# Altium footprint library Seeed-OPL-Resistor.PCBLIB: 55 footprints (part 1 of 4)
Each footprint in its own frame and in the unit in brackets; x right, y up, seen from the top. Pads: shape width x height; smd on the part's side, far side on the other; paste and mask are expansions set on the pad; w line width, h text height; cw(c..) or ccw(c..) is an arc to the next point about the centre after c.
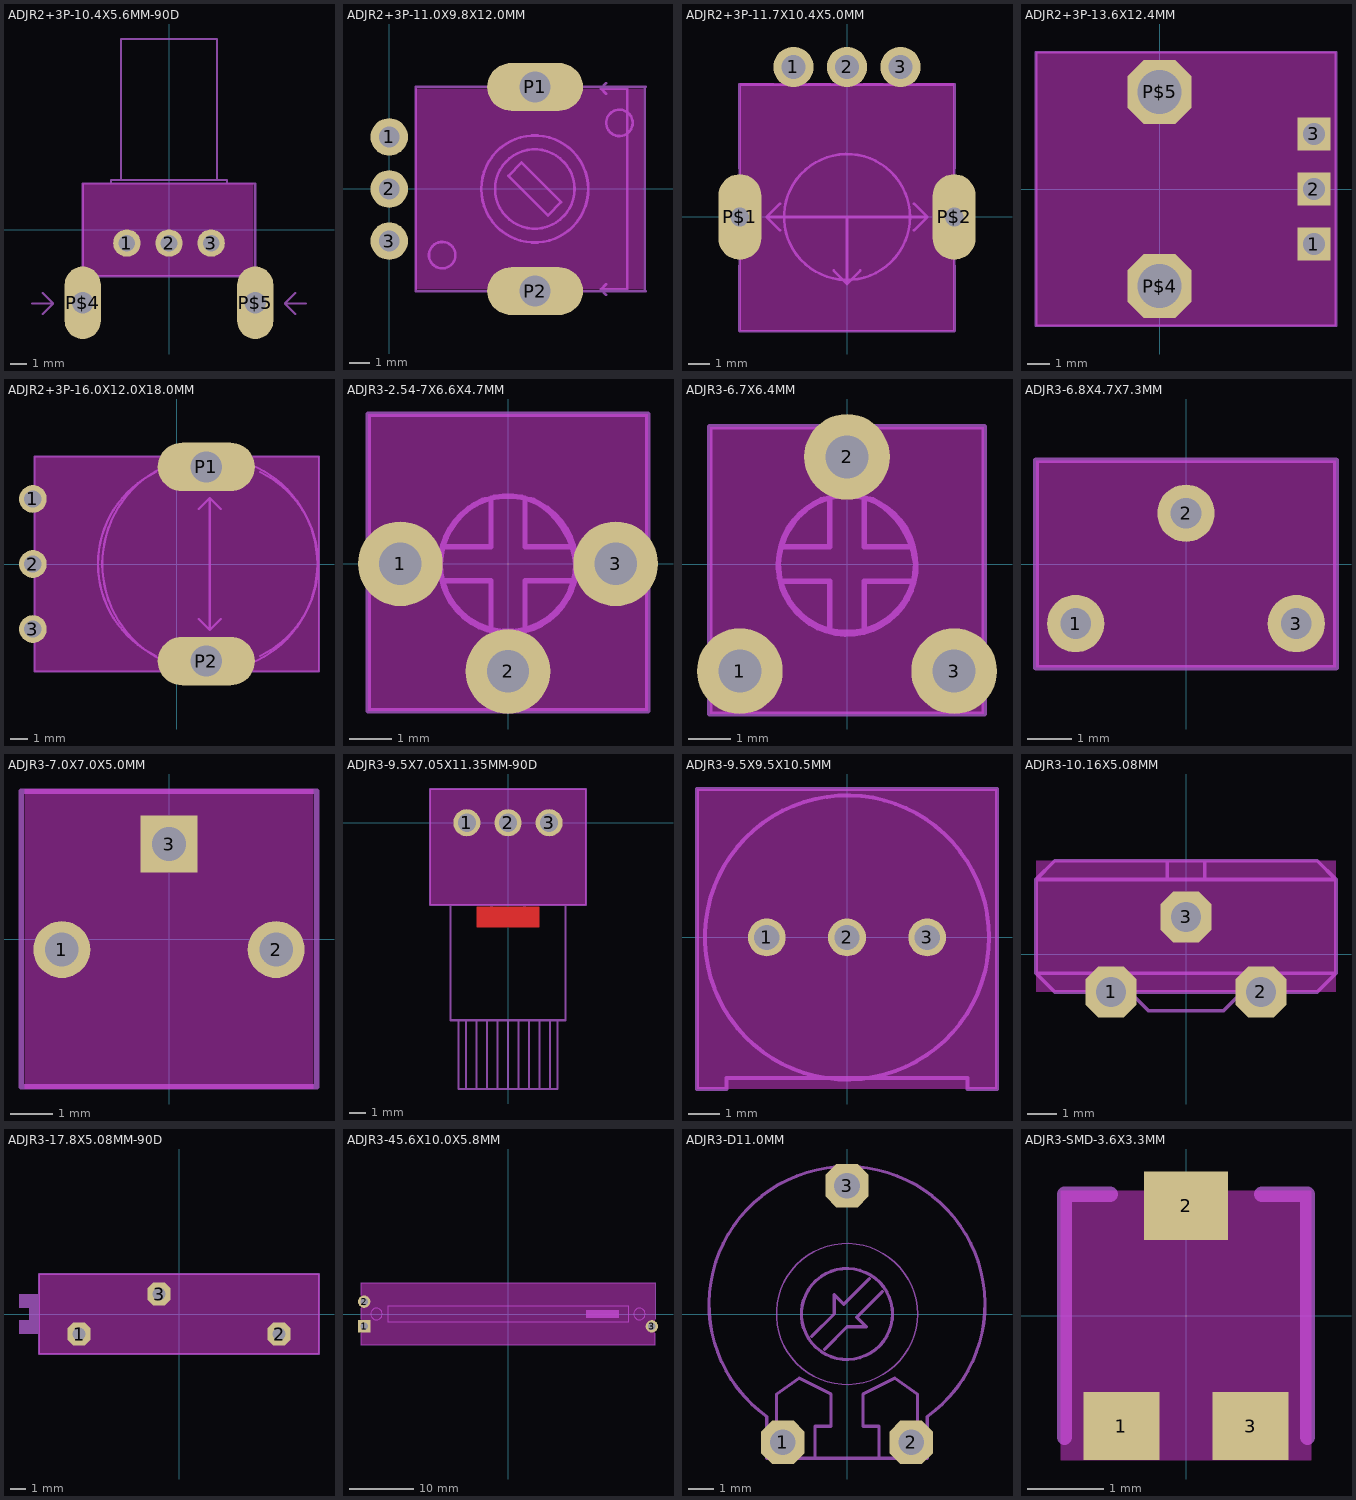
[diagram p0: the footprints below, top view; thin cyan lines are the x and y axes]

## ADJR2+3P-10.4X5.6MM-90D [mm]
pads (5):
  round 1.65 hole 1: 1(-2.54,-0.8) 2(0,-0.8) 3(2.54,-0.8)
  oval 2.184x4.369 hole 1.3: P$4(-5.2,-4.4) P$5(5.2,-4.4)
Keep-Out Layer:
  rectangle: -5.207,-2.794 5.08,2.794
Mechanical 2:
  lines w0.127: -5.2,-2 -5.2,2.8 -3.5,2.8 ; -3.9,-2.8 3.9,-2.8 ; 5.2,-1.9 5.2,2.8 3.5,2.8 ; -3.5,2.8 3.5,2.8 ; -3.5,2.8 -3.5,3 -2.9,3 ; -2.9,3 2.9,3 ; -2.9,3 -2.9,11.5 2.9,11.5 2.9,3 ; 2.9,3 3.5,3 3.5,2.8
Mechanical 13:
  lines w0.127: -8.255,-4.445 -6.985,-4.445 ; -7.62,-5.08 -6.985,-4.445 ; -7.62,-3.81 -6.985,-4.445 ; 7.62,-5.08 6.985,-4.445 ; 7.62,-3.81 6.985,-4.445 ; 8.255,-4.445 6.985,-4.445
  lines w1.3: -5.2,-5.7 -5.2,-3.1 ; 5.2,-5.7 5.2,-3.1
Mechanical 18:
  lines w0.127: -5.2,2.8 -5.2,-2.8 5.2,-2.8 5.2,2.8

## ADJR2+3P-11.0X9.8X12.0MM [mm]
pads (5):
  round 1.8 hole 1: 1(0,2.5) 2(0,0) 3(0,-2.5)
  oval 4.6x2.3 hole 1.5: P1(7,4.9) P2(7,-4.9)
Keep-Out Layer:
  rectangle: 1.27,-4.826 12.192,4.826
Mechanical 2:
  circle w0.127: c2.54,-3.175 r0.635
  circle w0.127: c11.049,3.175 r0.635
  circle w0.127: c6.985,0 r2.568
  circle w0.127: c6.985,0 r1.905
  lines w0.127: 1.27,-4.9 1.27,4.9 ; 1.3,-4.9 4.5,-4.9 ; 1.3,4.9 4.4,4.9 ; 9.5,-4.9 12.3,-4.9 ; 9.5,4.9 12.3,4.9 ; 12.27,-4.9 12.27,4.9 ; 5.715,0.635 6.35,1.27 8.255,-0.635 7.62,-1.27 5.715,0.635
Mechanical 13:
  lines w0.127: 10.414,-5.08 10.16,-4.826 ; 10.414,-4.572 10.16,-4.826 ; 10.414,4.572 10.16,4.826 ; 10.414,5.08 10.16,4.826 ; 10.16,-4.826 11.43,-4.826 11.43,4.826 10.16,4.826
  lines w1.5: 5.9,-4.9 8.1,-4.9 ; 5.9,4.9 8.1,4.9
Mechanical 18:
  lines w0.127: 1.27,-4.9 12.27,-4.9 ; 1.27,4.9 12.27,4.9

## ADJR2+3P-11.7X10.4X5.0MM [mil]
pads (5):
  round 75 hole 45: 1(-100,280) 2(0,280) 3(100,280)
  oval 80x160 hole 35: P$1(-200,0) P$2(200,0)
Keep-Out Layer:
  rectangle: -200,-213 200,250
Mechanical 2:
  circle w5: c0,0 r117.5
  lines w5: -200.79,-212.6 -200.79,-90.55 ; -200.79,90.55 -200.79,248.03 -137.8,248.03 ; -200,-213 200,-213 ; -70.87,248.03 -31.5,248.03 ; 31.5,248.03 66.93,248.03 ; 129.92,248.03 200.79,248.03 200.79,90.55 ; 200.79,-212.6 200.79,-90.55
Mechanical 13:
  lines w5: -125,-25 -150,0 ; -125,25 -150,0 ; -25,-100 0,-125 ; 25,-100 0,-125 ; 125,-25 150,0 ; 125,25 150,0 ; -150,0 0,0 ; 0,-125 0,0 ; 0,0 150,0
  lines w35: -200,-55 -200,55 ; 200,-55 200,55
Mechanical 18:
  lines w5: -200,-213 -200,247 200,247 200,-213

## ADJR2+3P-13.6X12.4MM [mm]
pads (5):
  rect 1.5x1.5 hole 1: 1(7,-2.5) 2(7,0) 3(7,2.5)
  oct 2.905x2.905 hole 2: P$4(0,-4.4) P$5(0,4.4)
Keep-Out Layer:
  rectangle: -5.6,-6.2 8,6.2
Mechanical 2:
  lines w0.127: -5.6,-6.2 8,-6.2 8,6.2 -5.6,6.2 -5.6,-6.2

## ADJR2+3P-16.0X12.0X18.0MM [mm]
pads (5):
  round 1.6 hole 1: 1(-8.3,3.75) 2(-8.3,0) 3(-8.3,-3.75)
  oval 5.6x2.8 hole 1.8: P1(1.7,5.6) P2(1.7,-5.6)
Keep-Out Layer:
  rectangle: -8.2,-6.2 8.2,6.2
Mechanical 2:
  circle w0.025: c-8.3,3.75 r0.5
  circle w0.025: c-8.3,0 r0.5
  circle w0.025: c-8.3,-3.75 r0.5
  lines w0.127: -8.2,-4.8 -8.2,-6.2 -1.2,-6.2 ; -8.2,-2.8 -8.2,-1 ; -8.2,1 -8.2,2.7 ; -8.2,4.8 -8.2,6.2 -1.2,6.2 ; -1.2,-5.3 cw(c1.325,0) -1.2,5.3 ; 4.6,-6.2 8.2,-6.2 8.2,6.2 4.6,6.2 ; 4.8,-5.3 ccw(c2.275,0) 4.8,5.3
Mechanical 13:
  lines w0.127: 1.27,-3.175 1.905,-3.81 ; 1.27,3.175 1.905,3.81 ; 2.54,-3.175 1.905,-3.81 ; 2.54,3.175 1.905,3.81 ; 1.905,-3.81 1.905,3.81
  lines w1.8: 0.4,-5.6 3,-5.6 ; 0.4,5.6 3,5.6
Mechanical 18:
  circle w0.127: c1.905,0 r6.2
  lines w0.127: -8.2,-6.2 -8.2,6.2 8.2,6.2 8.2,-6.2 -8.2,-6.2

## ADJR3-2.54-7X6.6X4.7MM [mm]
pads (3):
  round 2 hole 1: 1(-2.54,0) 2(0,-2.54) 3(2.54,0)
Keep-Out Layer:
  rectangle: -3.3,-3.47 3.3,3.53
Mechanical 2:
  lines w0.127: -3.3,-1 -3.3,-3.47 -1,-3.47 ; -3.3,1 -3.3,3.53 3.3,3.53 3.3,1 ; -1.524,-0.406 -1.524,-0.4 -0.4,-0.4 -0.4,-1.55 ; -1.524,0.406 -1.524,0.4 -0.4,0.4 -0.4,1.55 ; -0.6,1.5 ccw(c0.136,-0.074) -1.6,0 ccw(c-0.429,-0.05) -1.6,-0.1 ccw(c0.004,-0.031) 1.6,-0.2 ccw(c0.653,-0.1) 1.6,0 ccw(c-0.331,-0.204) 0.6,1.5 ; 0.4,-1.55 0.4,-0.4 1.524,-0.4 1.524,-0.406 ; 0.4,1.55 0.4,0.4 1.499,0.4 1.499,0.406 ; 1,-3.47 3.3,-3.47 3.3,-1
Mechanical 18:
  circle w0.127: c0,0 r1.6
  lines w0.127: -3.3,3.53 -3.3,-3.47 3.3,-3.47 3.3,3.53

## ADJR3-6.7X6.4MM [mm]
pads (3):
  round 2 hole 1: 1(-2.5,-2.5) 2(0,2.5) 3(2.5,-2.5)
Keep-Out Layer:
  rectangle: -3.2,-3.5 3.2,3.2
Mechanical 2:
  lines w0.127: -3.2,-1.5 -3.2,3.2 -1.1,3.2 ; -1.8,-3.5 1.8,-3.5 ; -1.524,-0.406 -1.524,-0.4 -0.4,-0.4 -0.4,-1.55 ; -1.524,0.406 -1.524,0.4 -0.4,0.4 -0.4,1.55 ; -0.6,1.5 ccw(c0.136,-0.074) -1.6,0 ccw(c-0.429,-0.05) -1.6,-0.1 ccw(c0.004,-0.031) 1.6,-0.2 ccw(c0.653,-0.1) 1.6,0 ccw(c-0.331,-0.204) 0.6,1.5 ; 0.4,-1.55 0.4,-0.4 1.524,-0.4 1.524,-0.406 ; 0.4,1.55 0.4,0.4 1.499,0.4 1.499,0.406 ; 1,3.2 3.2,3.2 3.2,-1.5
Mechanical 18:
  circle w0.127: c0,0 r1.6
  lines w0.127: -3.2,-3.5 3.2,-3.5 3.2,3.2 -3.2,3.2 -3.2,-3.5

## ADJR3-6.8X4.7X7.3MM [mm]
pads (3):
  round 1.3 hole 0.7: 1(-2.5,-1.35) 2(0,1.15) 3(2.5,-1.35)
Keep-Out Layer:
  rectangle: -3.4,-2.35 3.4,2.35
Mechanical 2:
  lines w0.127: -3.4,-2.35 3.4,-2.35 3.4,2.35 -3.4,2.35 -3.4,-2.35

## ADJR3-7.0X7.0X5.0MM [mm]
pads (3):
  round 1.35 hole 0.8: 1(-2.54,-0.25) 2(2.54,-0.25)
  rect 1.35x1.35 hole 0.8: 3(0,2.25)
Keep-Out Layer:
  rectangle: -3.429,-3.556 3.429,3.556
Mechanical 2:
  lines w0.127: -3.5,-3.5 3.5,-3.5 3.5,3.5 -3.5,3.5 -3.5,-3.5

## ADJR3-9.5X7.05X11.35MM-90D [mm]
pads (3):
  round 1.65 hole 1.1: 1(-2.5,0) 2(0,0) 3(2.5,0)
Top Layer:
  rectangle: -1.905,-6.35 1.905,-5.08
Keep-Out Layer:
  rectangle: -4.75,-5 4.75,2.05
Mechanical 2:
  lines w0.127: -3,-12.065 -3,-16.175 -2.54,-16.175 ; -2.54,-12.065 -2.54,-16.175 ; -1.905,-12.065 -1.905,-16.175 ; -1.27,-12.065 -1.27,-16.175 ; -0.635,-12.065 -0.635,-16.175 ; 0,-12.065 0,-16.175 ; 0.635,-12.065 0.635,-16.175 ; 1.27,-12.065 1.27,-16.175 ; 1.905,-12.065 1.905,-16.175 ; 2.54,-12.065 2.54,-16.175 ; 3,-12.065 3,-16.175 2.54,-16.175 ; -3.5,-5 3.5,-5 ; -3.5,-5 -4.75,-5 -4.75,2.05 4.75,2.05 4.75,-5 3.5,-5 ; -3.5,-5 -3.5,-12 3.5,-12 3.5,-5 ; -2.54,-16.175 -1.905,-16.175 ; -1.905,-16.175 -1.27,-16.175 ; -1.27,-16.175 -0.635,-16.175 ; -0.635,-16.175 0,-16.175 ; 0,-16.175 0.635,-16.175 ; 0.635,-16.175 1.27,-16.175 ; 1.27,-16.175 1.905,-16.175 ; 1.905,-16.175 2.54,-16.175
Mechanical 18:
  lines w0.127: -1,-5.08 -1,-5.8 1,-5.8 1,-5.08

## ADJR3-9.5X9.5X10.5MM [mil]
pads (3):
  round 47.25 hole 31.5: 1(-100,0) 2(0,0) 3(100,0)
Keep-Out Layer:
  rectangle: -187.01,-188.98 187.01,185.04
Mechanical 2:
  circle w5: c0,0 r177.17
  lines w5: -187.01,-188.98 -187.01,185.04 187.01,185.04 187.01,-188.98 150,-188.98 150,-175 -150,-175 -150,-188.98 -187.01,-188.98

## ADJR3-10.16X5.08MM [mil]
pads (3):
  oct 67.78x67.78 hole 40: 1(-100,-50) 2(100,-50) 3(0,50)
Keep-Out Layer:
  rectangle: -200,-50 200,125
Mechanical 2:
  lines w5: -175,-50 -200,-25 -200,100 ; -50,-75 50,-75 ; -25,100 -25,125 ; 25,100 25,125 ; 175,-50 200,-25 200,100 ; -200,100 -175,125 175,125 200,100 ; -200,100 200,100
Mechanical 18:
  lines w5: -200,-25 200,-25 ; -175,-50 175,-50 ; -75,-50 -50,-75 ; 50,-75 75,-50

## ADJR3-17.8X5.08MM-90D [mil]
pads (3):
  oct 58.09x58.09 hole 32: 1(-250,-50) 2(250,-50) 3(-50,50)
Keep-Out Layer:
  rectangle: -350,-100 350,100
Mechanical 2:
  rectangle: -375,-50 -350,50
  rectangle: -400,15 -375,50
  rectangle: -400,-50 -375,-15
  lines w5: -350,-100 350,-100 350,100 -350,100 -350,-100

## ADJR3-45.6X10.0X5.8MM [mil]
pads (3):
  rect 75x75 hole 45: 1(-875,-75)
  round 75 hole 45: 2(-875,75) 3(875,-75)
Keep-Out Layer:
  rectangle: -895,-190 895,190
Mechanical 2:
  circle w5: c-800,0 r35
  circle w5: c800,0 r35
  rectangle: 475,-25 675,25
  lines w5: -895.67,-188.98 -895.67,-118.11 ; -895.67,-31.5 -895.67,35.43 ; -895.67,114.17 -895.67,188.98 ; -895,-190 895,-190 ; -895,190 895,190 ; 895.67,-188.98 895.67,-118.11 ; 895.67,-31.5 895.67,188.98 ; -730,-50 730,-50 730,50 -730,50 -730,-50

## ADJR3-D11.0MM [mil]
pads (3):
  oct 67.78x67.78 hole 40: 1(-100,-200) 2(100,-200) 3(0,200)
Mechanical 2:
  circle w5: c0,0 r71
  circle w2: c0,0 r110
  lines w5: -125,-160 cw(c0,15) 125,-160 ; -110,-125 -75,-100 -25,-125 -25,-175 -50,-175 -50,-225 ; -55,-35 -20,0 -20,30 -5,15 35,55 ; -35,-55 0,-20 30,-20 15,-5 55,35 ; 50,-225 50,-175 25,-175 25,-125 75,-100 110,-125
Mechanical 18:
  lines w5: -125,-160 -125,-225 125,-225 125,-160 ; -110,-225 -110,-125 ; 110,-225 110,-125

## ADJR3-SMD-3.6X3.3MM [mm]
pads (3):
  rect 1x0.9 smd: 1(-0.85,-1.45) 3(0.85,-1.45)
  rect 1.1x0.9 smd: 2(0,1.45)
Keep-Out Layer:
  rectangle: -1.651,-1.905 1.651,1.651
Mechanical 2:
  lines w0.203: -1.6,-1.6 -1.6,1.6 -1,1.6 ; 1,1.6 1.6,1.6 1.6,-1.6